# Altium footprint library Connector_PinSocket_2.54mm.PcbLib: 278 footprints (part 2 of 18)
Each footprint in its own frame and in the unit in brackets; x right, y up, seen from the top. Pads: shape width x height; smd on the part's side, far side on the other; paste and mask are expansions set on the pad; w line width, h text height; cw(c..) or ccw(c..) is an arc to the next point about the centre after c.
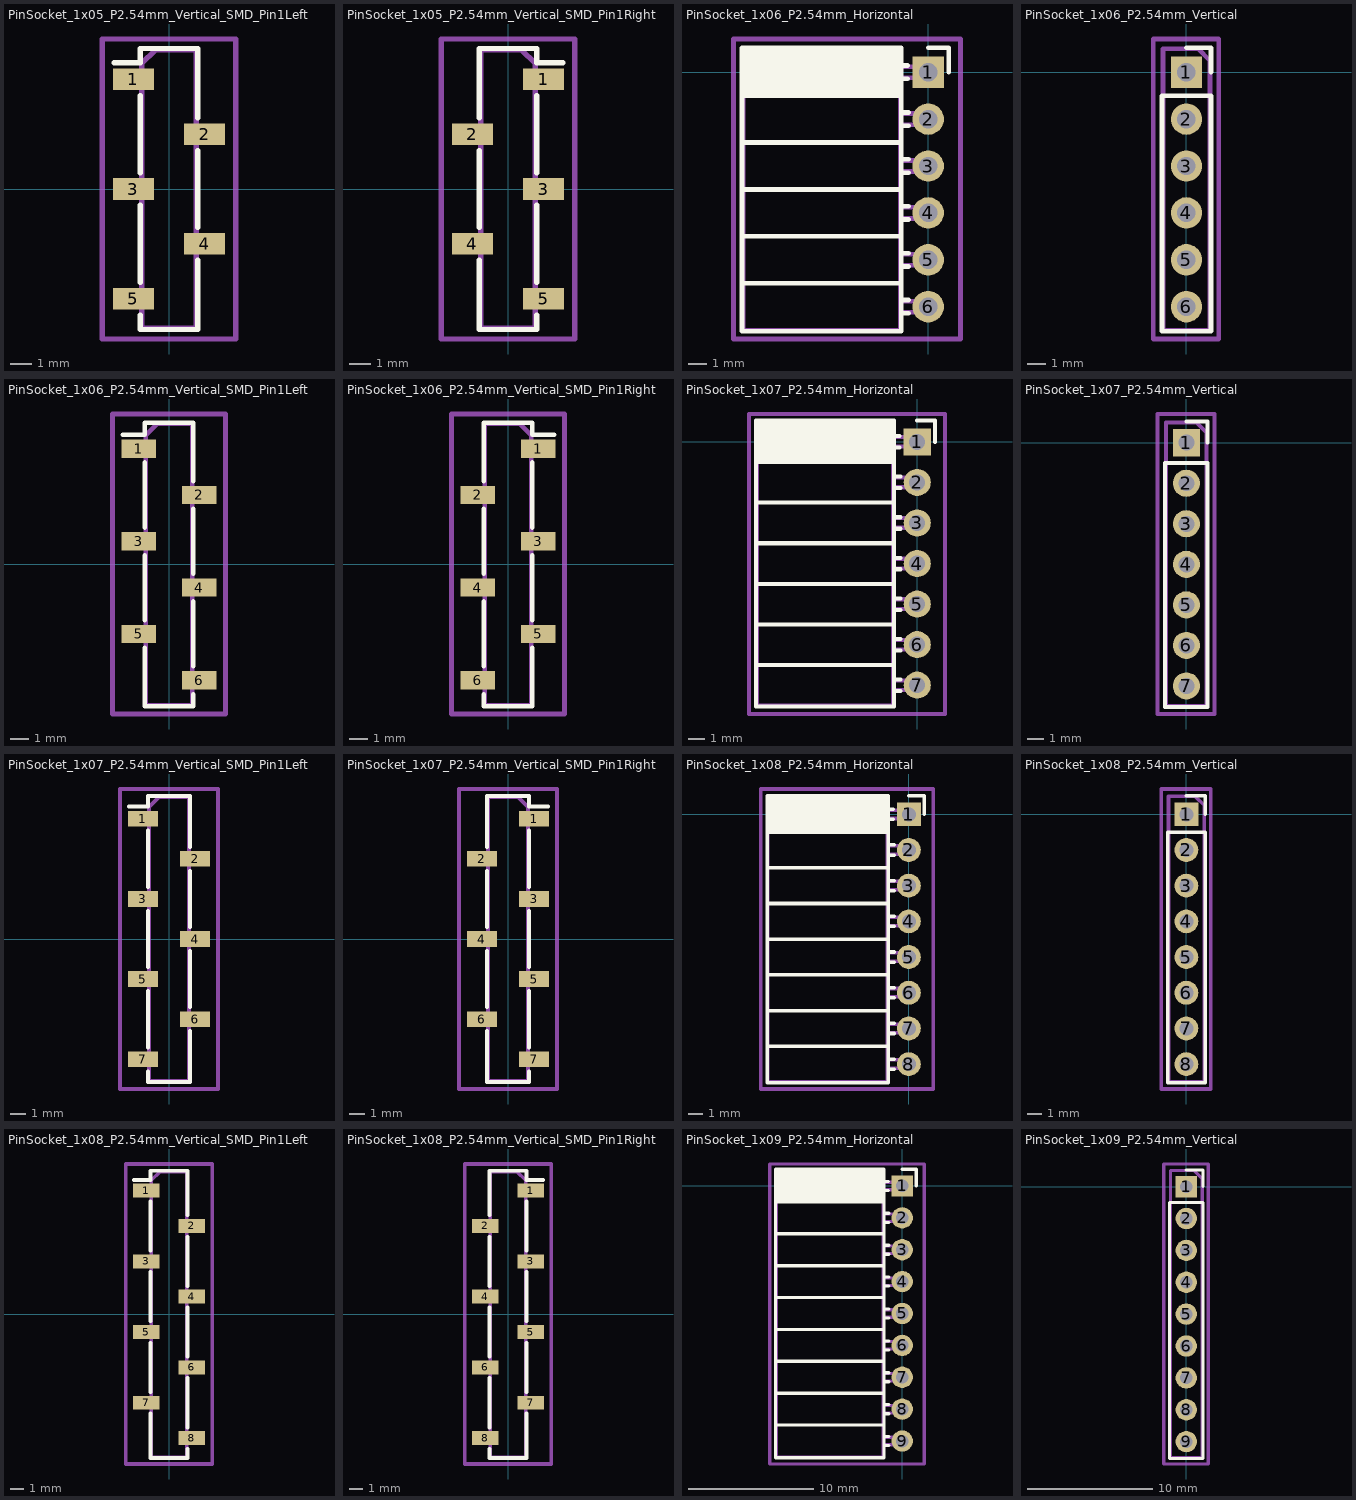
[diagram p1: the footprints below, top view; thin cyan lines are the x and y axes]

## PinSocket_1x05_P2.54mm_Vertical_SMD_Pin1Left [mm]
pads (5):
  rect 1.9x1 smd: 1(-1.65,5.08) 2(1.65,2.54) 3(-1.65,0) 4(1.65,-2.54) 5(-1.65,-5.08)
F.SilkS:
  lines w0.254: -2.54,5.84 -1.33,5.84 -1.33,6.51 1.33,6.51 1.33,3.3 ; -1.33,-5.84 -1.33,-6.51 1.33,-6.51 1.33,-3.3 ; -1.33,-4.32 -1.33,-0.76 ; -1.33,0.76 -1.33,4.32 ; 1.33,-1.78 1.33,1.78
Top Assembly:
  lines w0.254: -1.27,-5.38 -2.27,-5.38 -2.27,-4.78 -1.27,-4.78 ; -1.27,-0.3 -2.27,-0.3 -2.27,0.3 -1.27,0.3 ; -1.27,4.78 -2.27,4.78 -2.27,5.38 -1.27,5.38 ; 1.27,-2.84 2.27,-2.84 2.27,-2.24 1.27,-2.24 ; 1.27,2.24 2.27,2.24 2.27,2.84 1.27,2.84 ; -1.27,-6.45 1.27,-6.45 1.27,6.45 -0.635,6.45 -1.27,5.815 -1.27,-6.45
  text "'.Designator'" at 0.84,-4.047 h1
Top Courtyard:
  lines w0.254: -3.1,-6.95 3.1,-6.95 3.1,6.95 -3.1,6.95 -3.1,-6.95
Top Designator:
  text ".Designator" at -7.618,-0.508 h1.52

## PinSocket_1x05_P2.54mm_Vertical_SMD_Pin1Right [mm]
pads (5):
  rect 1.9x1 smd: 1(1.65,5.08) 2(-1.65,2.54) 3(1.65,0) 4(-1.65,-2.54) 5(1.65,-5.08)
F.SilkS:
  lines w0.254: -1.33,-3.3 -1.33,-6.51 1.33,-6.51 1.33,-5.84 ; -1.33,-1.78 -1.33,1.78 ; -1.33,3.3 -1.33,6.51 1.33,6.51 1.33,5.84 2.54,5.84 ; 1.33,-4.32 1.33,-0.76 ; 1.33,0.76 1.33,4.32
Top Assembly:
  lines w0.254: -1.27,-2.84 -2.27,-2.84 -2.27,-2.24 -1.27,-2.24 ; -1.27,2.24 -2.27,2.24 -2.27,2.84 -1.27,2.84 ; 1.27,-5.38 2.27,-5.38 2.27,-4.78 1.27,-4.78 ; 1.27,-0.3 2.27,-0.3 2.27,0.3 1.27,0.3 ; 1.27,4.78 2.27,4.78 2.27,5.38 1.27,5.38 ; -1.27,-6.45 1.27,-6.45 1.27,5.815 0.635,6.45 -1.27,6.45 -1.27,-6.45
  text "'.Designator'" at 0.84,-4.047 h1
Top Courtyard:
  lines w0.254: -3.1,-6.95 3.1,-6.95 3.1,6.95 -3.1,6.95 -3.1,-6.95
Top Designator:
  text ".Designator" at -7.618,-0.508 h1.52

## PinSocket_1x06_P2.54mm_Horizontal [mm]
pads (6):
  rect 1.7x1.7 hole 1: 1(0,0)
  round 1.7 hole 1: 2(0,-2.54) 3(0,-5.08) 4(0,-7.62) 5(0,-10.16) 6(0,-12.7)
F.SilkS:
  lines w0.254: -10.09,-11.43 -1.46,-11.43 ; -10.09,-8.89 -1.46,-8.89 ; -10.09,-6.35 -1.46,-6.35 ; -10.09,-3.81 -1.46,-3.81 ; -10.09,-1.27 -1.46,-1.27 ; -10.09,-1.152 -1.46,-1.152 ; -10.09,-1.034 -1.46,-1.034 ; -10.09,-0.916 -1.46,-0.916 ; -10.09,-0.798 -1.46,-0.798 ; -10.09,-0.68 -1.46,-0.68 ; -10.09,-0.561 -1.46,-0.561 ; -10.09,-0.443 -1.46,-0.443 ; -10.09,-0.325 -1.46,-0.325 ; -10.09,-0.207 -1.46,-0.207 ; -10.09,-0.089 -1.46,-0.089 ; -10.09,0.029 -1.46,0.029 ; -10.09,0.147 -1.46,0.147 ; -10.09,0.265 -1.46,0.265 ; -10.09,0.383 -1.46,0.383 ; -10.09,0.501 -1.46,0.501 ; -10.09,0.62 -1.46,0.62 ; -10.09,0.738 -1.46,0.738 ; -10.09,0.856 -1.46,0.856 ; -10.09,0.974 -1.46,0.974 ; -10.09,1.092 -1.46,1.092 ; -10.09,1.21 -1.46,1.21 ; -1.46,-13.06 -1.05,-13.06 ; -1.46,-12.34 -1.05,-12.34 ; -1.46,-10.52 -1.05,-10.52 ; -1.46,-9.8 -1.05,-9.8 ; -1.46,-7.98 -1.05,-7.98 ; -1.46,-7.26 -1.05,-7.26 ; -1.46,-5.44 -1.05,-5.44 ; -1.46,-4.72 -1.05,-4.72 ; -1.46,-2.9 -1.05,-2.9 ; -1.46,-2.18 -1.05,-2.18 ; -1.46,-0.36 -1.11,-0.36 ; -1.46,0.36 -1.11,0.36 ; 0,1.33 1.11,1.33 1.11,0 ; -10.09,-14.03 -1.46,-14.03 -1.46,1.33 -10.09,1.33 -10.09,-14.03
Top Assembly:
  lines w0.254: -1.52,-13 0,-13 0,-12.4 -1.52,-12.4 ; -1.52,-10.46 0,-10.46 0,-9.86 -1.52,-9.86 ; -1.52,-7.92 0,-7.92 0,-7.32 -1.52,-7.32 ; -1.52,-5.38 0,-5.38 0,-4.78 -1.52,-4.78 ; -1.52,-2.84 0,-2.84 0,-2.24 -1.52,-2.24 ; -1.52,-0.3 0,-0.3 0,0.3 -1.52,0.3 ; -1.52,0.3 -1.52,-13.97 -10.03,-13.97 -10.03,1.27 -2.49,1.27 -1.52,0.3
  text "'.Designator'" at -4.935,-10.397 h1
Top Courtyard:
  lines w0.254: -10.55,-14.45 1.75,-14.45 1.75,1.8 -10.55,1.8 -10.55,-14.45
Top Designator:
  text ".Designator" at -12.018,-6.833 h1.52

## PinSocket_1x06_P2.54mm_Vertical [mm]
pads (6):
  rect 1.7x1.7 hole 1: 1(0,0)
  round 1.7 hole 1: 2(0,-2.54) 3(0,-5.08) 4(0,-7.62) 5(0,-10.16) 6(0,-12.7)
F.SilkS:
  lines w0.254: 0,1.33 1.33,1.33 1.33,0 ; -1.33,-14.03 1.33,-14.03 1.33,-1.27 -1.33,-1.27 -1.33,-14.03
Top Assembly:
  lines w0.254: -1.27,-13.97 1.27,-13.97 1.27,0.635 0.635,1.27 -1.27,1.27 -1.27,-13.97
  text "'.Designator'" at 0.84,-10.397 h1
Top Courtyard:
  lines w0.254: -1.8,-14.45 1.75,-14.45 1.75,1.8 -1.8,1.8 -1.8,-14.45
Top Designator:
  text ".Designator" at -7.643,-6.833 h1.52

## PinSocket_1x06_P2.54mm_Vertical_SMD_Pin1Left [mm]
pads (6):
  rect 1.9x1 smd: 1(-1.65,6.35) 2(1.65,3.81) 3(-1.65,1.27) 4(1.65,-1.27) 5(-1.65,-3.81) 6(1.65,-6.35)
F.SilkS:
  lines w0.254: -2.54,7.11 -1.33,7.11 -1.33,7.78 1.33,7.78 1.33,4.57 ; -1.33,-4.57 -1.33,-7.78 1.33,-7.78 1.33,-7.11 ; -1.33,-3.05 -1.33,0.51 ; -1.33,2.03 -1.33,5.59 ; 1.33,-5.59 1.33,-2.03 ; 1.33,-0.51 1.33,3.05
Top Assembly:
  lines w0.254: -1.27,-4.11 -2.27,-4.11 -2.27,-3.51 -1.27,-3.51 ; -1.27,0.97 -2.27,0.97 -2.27,1.57 -1.27,1.57 ; -1.27,6.05 -2.27,6.05 -2.27,6.65 -1.27,6.65 ; 1.27,-6.65 2.27,-6.65 2.27,-6.05 1.27,-6.05 ; 1.27,-1.57 2.27,-1.57 2.27,-0.97 1.27,-0.97 ; 1.27,3.51 2.27,3.51 2.27,4.11 1.27,4.11 ; -1.27,-7.72 1.27,-7.72 1.27,7.72 -0.635,7.72 -1.27,7.085 -1.27,-7.72
  text "'.Designator'" at 0.84,-4.047 h1
Top Courtyard:
  lines w0.254: -3.1,-8.2 3.1,-8.2 3.1,8.25 -3.1,8.25 -3.1,-8.2
Top Designator:
  text ".Designator" at -7.618,-0.483 h1.52

## PinSocket_1x06_P2.54mm_Vertical_SMD_Pin1Right [mm]
pads (6):
  rect 1.9x1 smd: 1(1.65,6.35) 2(-1.65,3.81) 3(1.65,1.27) 4(-1.65,-1.27) 5(1.65,-3.81) 6(-1.65,-6.35)
F.SilkS:
  lines w0.254: -1.33,-7.11 -1.33,-7.78 1.33,-7.78 1.33,-4.57 ; -1.33,-5.59 -1.33,-2.03 ; -1.33,-0.51 -1.33,3.05 ; -1.33,4.57 -1.33,7.78 1.33,7.78 1.33,7.11 2.54,7.11 ; 1.33,-3.05 1.33,0.51 ; 1.33,2.03 1.33,5.59
Top Assembly:
  lines w0.254: -1.27,-6.65 -2.27,-6.65 -2.27,-6.05 -1.27,-6.05 ; -1.27,-1.57 -2.27,-1.57 -2.27,-0.97 -1.27,-0.97 ; -1.27,3.51 -2.27,3.51 -2.27,4.11 -1.27,4.11 ; 1.27,-4.11 2.27,-4.11 2.27,-3.51 1.27,-3.51 ; 1.27,0.97 2.27,0.97 2.27,1.57 1.27,1.57 ; 1.27,6.05 2.27,6.05 2.27,6.65 1.27,6.65 ; -1.27,-7.72 1.27,-7.72 1.27,7.085 0.635,7.72 -1.27,7.72 -1.27,-7.72
  text "'.Designator'" at 0.84,-4.047 h1
Top Courtyard:
  lines w0.254: -3.1,-8.2 3.1,-8.2 3.1,8.25 -3.1,8.25 -3.1,-8.2
Top Designator:
  text ".Designator" at -7.618,-0.483 h1.52

## PinSocket_1x07_P2.54mm_Horizontal [mm]
pads (7):
  rect 1.7x1.7 hole 1: 1(0,0)
  round 1.7 hole 1: 2(0,-2.54) 3(0,-5.08) 4(0,-7.62) 5(0,-10.16) 6(0,-12.7) 7(0,-15.24)
F.SilkS:
  lines w0.254: -10.09,-13.97 -1.46,-13.97 ; -10.09,-11.43 -1.46,-11.43 ; -10.09,-8.89 -1.46,-8.89 ; -10.09,-6.35 -1.46,-6.35 ; -10.09,-3.81 -1.46,-3.81 ; -10.09,-1.27 -1.46,-1.27 ; -10.09,-1.152 -1.46,-1.152 ; -10.09,-1.034 -1.46,-1.034 ; -10.09,-0.916 -1.46,-0.916 ; -10.09,-0.798 -1.46,-0.798 ; -10.09,-0.68 -1.46,-0.68 ; -10.09,-0.561 -1.46,-0.561 ; -10.09,-0.443 -1.46,-0.443 ; -10.09,-0.325 -1.46,-0.325 ; -10.09,-0.207 -1.46,-0.207 ; -10.09,-0.089 -1.46,-0.089 ; -10.09,0.029 -1.46,0.029 ; -10.09,0.147 -1.46,0.147 ; -10.09,0.265 -1.46,0.265 ; -10.09,0.383 -1.46,0.383 ; -10.09,0.501 -1.46,0.501 ; -10.09,0.62 -1.46,0.62 ; -10.09,0.738 -1.46,0.738 ; -10.09,0.856 -1.46,0.856 ; -10.09,0.974 -1.46,0.974 ; -10.09,1.092 -1.46,1.092 ; -10.09,1.21 -1.46,1.21 ; -1.46,-15.6 -1.05,-15.6 ; -1.46,-14.88 -1.05,-14.88 ; -1.46,-13.06 -1.05,-13.06 ; -1.46,-12.34 -1.05,-12.34 ; -1.46,-10.52 -1.05,-10.52 ; -1.46,-9.8 -1.05,-9.8 ; -1.46,-7.98 -1.05,-7.98 ; -1.46,-7.26 -1.05,-7.26 ; -1.46,-5.44 -1.05,-5.44 ; -1.46,-4.72 -1.05,-4.72 ; -1.46,-2.9 -1.05,-2.9 ; -1.46,-2.18 -1.05,-2.18 ; -1.46,-0.36 -1.11,-0.36 ; -1.46,0.36 -1.11,0.36 ; 0,1.33 1.11,1.33 1.11,0 ; -10.09,-16.57 -1.46,-16.57 -1.46,1.33 -10.09,1.33 -10.09,-16.57
Top Assembly:
  lines w0.254: -1.52,-15.54 0,-15.54 0,-14.94 -1.52,-14.94 ; -1.52,-13 0,-13 0,-12.4 -1.52,-12.4 ; -1.52,-10.46 0,-10.46 0,-9.86 -1.52,-9.86 ; -1.52,-7.92 0,-7.92 0,-7.32 -1.52,-7.32 ; -1.52,-5.38 0,-5.38 0,-4.78 -1.52,-4.78 ; -1.52,-2.84 0,-2.84 0,-2.24 -1.52,-2.24 ; -1.52,-0.3 0,-0.3 0,0.3 -1.52,0.3 ; -1.52,0.3 -1.52,-16.51 -10.03,-16.51 -10.03,1.27 -2.49,1.27 -1.52,0.3
  text "'.Designator'" at -4.935,-11.667 h1
Top Courtyard:
  lines w0.254: -10.55,-17.05 1.75,-17.05 1.75,1.75 -10.55,1.75 -10.55,-17.05
Top Designator:
  text ".Designator" at -12.018,-8.158 h1.52

## PinSocket_1x07_P2.54mm_Vertical [mm]
pads (7):
  rect 1.7x1.7 hole 1: 1(0,0)
  round 1.7 hole 1: 2(0,-2.54) 3(0,-5.08) 4(0,-7.62) 5(0,-10.16) 6(0,-12.7) 7(0,-15.24)
F.SilkS:
  lines w0.254: 0,1.33 1.33,1.33 1.33,0 ; -1.33,-16.57 1.33,-16.57 1.33,-1.27 -1.33,-1.27 -1.33,-16.57
Top Assembly:
  lines w0.254: -1.27,-16.51 1.27,-16.51 1.27,0.635 0.635,1.27 -1.27,1.27 -1.27,-16.51
  text "'.Designator'" at 0.84,-11.667 h1
Top Courtyard:
  lines w0.254: -1.8,-17 1.75,-17 1.75,1.8 -1.8,1.8 -1.8,-17
Top Designator:
  text ".Designator" at -7.643,-8.108 h1.52

## PinSocket_1x07_P2.54mm_Vertical_SMD_Pin1Left [mm]
pads (7):
  rect 1.9x1 smd: 1(-1.65,7.62) 2(1.65,5.08) 3(-1.65,2.54) 4(1.65,0) 5(-1.65,-2.54) 6(1.65,-5.08) 7(-1.65,-7.62)
F.SilkS:
  lines w0.254: -2.54,8.38 -1.33,8.38 -1.33,9.05 1.33,9.05 1.33,5.84 ; -1.33,-8.38 -1.33,-9.05 1.33,-9.05 1.33,-5.84 ; -1.33,-6.86 -1.33,-3.3 ; -1.33,-1.78 -1.33,1.78 ; -1.33,3.3 -1.33,6.86 ; 1.33,-4.32 1.33,-0.76 ; 1.33,0.76 1.33,4.32
Top Assembly:
  lines w0.254: -1.27,-7.92 -2.27,-7.92 -2.27,-7.32 -1.27,-7.32 ; -1.27,-2.84 -2.27,-2.84 -2.27,-2.24 -1.27,-2.24 ; -1.27,2.24 -2.27,2.24 -2.27,2.84 -1.27,2.84 ; -1.27,7.32 -2.27,7.32 -2.27,7.92 -1.27,7.92 ; 1.27,-5.38 2.27,-5.38 2.27,-4.78 1.27,-4.78 ; 1.27,-0.3 2.27,-0.3 2.27,0.3 1.27,0.3 ; 1.27,4.78 2.27,4.78 2.27,5.38 1.27,5.38 ; -1.27,-8.99 1.27,-8.99 1.27,8.99 -0.635,8.99 -1.27,8.355 -1.27,-8.99
  text "'.Designator'" at 0.84,-4.047 h1
Top Courtyard:
  lines w0.254: -3.1,-9.5 3.1,-9.5 3.1,9.5 -3.1,9.5 -3.1,-9.5
Top Designator:
  text ".Designator" at -7.618,-0.508 h1.52

## PinSocket_1x07_P2.54mm_Vertical_SMD_Pin1Right [mm]
pads (7):
  rect 1.9x1 smd: 1(1.65,7.62) 2(-1.65,5.08) 3(1.65,2.54) 4(-1.65,0) 5(1.65,-2.54) 6(-1.65,-5.08) 7(1.65,-7.62)
F.SilkS:
  lines w0.254: -1.33,-5.84 -1.33,-9.05 1.33,-9.05 1.33,-8.38 ; -1.33,-4.32 -1.33,-0.76 ; -1.33,0.76 -1.33,4.32 ; -1.33,5.84 -1.33,9.05 1.33,9.05 1.33,8.38 2.54,8.38 ; 1.33,-6.86 1.33,-3.3 ; 1.33,-1.78 1.33,1.78 ; 1.33,3.3 1.33,6.86
Top Assembly:
  lines w0.254: -1.27,-5.38 -2.27,-5.38 -2.27,-4.78 -1.27,-4.78 ; -1.27,-0.3 -2.27,-0.3 -2.27,0.3 -1.27,0.3 ; -1.27,4.78 -2.27,4.78 -2.27,5.38 -1.27,5.38 ; 1.27,-7.92 2.27,-7.92 2.27,-7.32 1.27,-7.32 ; 1.27,-2.84 2.27,-2.84 2.27,-2.24 1.27,-2.24 ; 1.27,2.24 2.27,2.24 2.27,2.84 1.27,2.84 ; 1.27,7.32 2.27,7.32 2.27,7.92 1.27,7.92 ; -1.27,-8.99 1.27,-8.99 1.27,8.355 0.635,8.99 -1.27,8.99 -1.27,-8.99
  text "'.Designator'" at 0.84,-4.047 h1
Top Courtyard:
  lines w0.254: -3.1,-9.5 3.1,-9.5 3.1,9.5 -3.1,9.5 -3.1,-9.5
Top Designator:
  text ".Designator" at -7.618,-0.508 h1.52

## PinSocket_1x08_P2.54mm_Horizontal [mm]
pads (8):
  rect 1.7x1.7 hole 1: 1(0,0)
  round 1.7 hole 1: 2(0,-2.54) 3(0,-5.08) 4(0,-7.62) 5(0,-10.16) 6(0,-12.7) 7(0,-15.24) 8(0,-17.78)
F.SilkS:
  lines w0.254: -10.09,-16.51 -1.46,-16.51 ; -10.09,-13.97 -1.46,-13.97 ; -10.09,-11.43 -1.46,-11.43 ; -10.09,-8.89 -1.46,-8.89 ; -10.09,-6.35 -1.46,-6.35 ; -10.09,-3.81 -1.46,-3.81 ; -10.09,-1.27 -1.46,-1.27 ; -10.09,-1.152 -1.46,-1.152 ; -10.09,-1.034 -1.46,-1.034 ; -10.09,-0.916 -1.46,-0.916 ; -10.09,-0.798 -1.46,-0.798 ; -10.09,-0.68 -1.46,-0.68 ; -10.09,-0.561 -1.46,-0.561 ; -10.09,-0.443 -1.46,-0.443 ; -10.09,-0.325 -1.46,-0.325 ; -10.09,-0.207 -1.46,-0.207 ; -10.09,-0.089 -1.46,-0.089 ; -10.09,0.029 -1.46,0.029 ; -10.09,0.147 -1.46,0.147 ; -10.09,0.265 -1.46,0.265 ; -10.09,0.383 -1.46,0.383 ; -10.09,0.501 -1.46,0.501 ; -10.09,0.62 -1.46,0.62 ; -10.09,0.738 -1.46,0.738 ; -10.09,0.856 -1.46,0.856 ; -10.09,0.974 -1.46,0.974 ; -10.09,1.092 -1.46,1.092 ; -10.09,1.21 -1.46,1.21 ; -1.46,-18.14 -1.05,-18.14 ; -1.46,-17.42 -1.05,-17.42 ; -1.46,-15.6 -1.05,-15.6 ; -1.46,-14.88 -1.05,-14.88 ; -1.46,-13.06 -1.05,-13.06 ; -1.46,-12.34 -1.05,-12.34 ; -1.46,-10.52 -1.05,-10.52 ; -1.46,-9.8 -1.05,-9.8 ; -1.46,-7.98 -1.05,-7.98 ; -1.46,-7.26 -1.05,-7.26 ; -1.46,-5.44 -1.05,-5.44 ; -1.46,-4.72 -1.05,-4.72 ; -1.46,-2.9 -1.05,-2.9 ; -1.46,-2.18 -1.05,-2.18 ; -1.46,-0.36 -1.11,-0.36 ; -1.46,0.36 -1.11,0.36 ; 0,1.33 1.11,1.33 1.11,0 ; -10.09,-19.11 -1.46,-19.11 -1.46,1.33 -10.09,1.33 -10.09,-19.11
Top Assembly:
  lines w0.254: -1.52,-18.08 0,-18.08 0,-17.48 -1.52,-17.48 ; -1.52,-15.54 0,-15.54 0,-14.94 -1.52,-14.94 ; -1.52,-13 0,-13 0,-12.4 -1.52,-12.4 ; -1.52,-10.46 0,-10.46 0,-9.86 -1.52,-9.86 ; -1.52,-7.92 0,-7.92 0,-7.32 -1.52,-7.32 ; -1.52,-5.38 0,-5.38 0,-4.78 -1.52,-4.78 ; -1.52,-2.84 0,-2.84 0,-2.24 -1.52,-2.24 ; -1.52,-0.3 0,-0.3 0,0.3 -1.52,0.3 ; -1.52,0.3 -1.52,-19.05 -10.03,-19.05 -10.03,1.27 -2.49,1.27 -1.52,0.3
  text "'.Designator'" at -4.935,-12.937 h1
Top Courtyard:
  lines w0.254: -10.55,-19.55 1.75,-19.55 1.75,1.8 -10.55,1.8 -10.55,-19.55
Top Designator:
  text ".Designator" at -12.018,-9.383 h1.52

## PinSocket_1x08_P2.54mm_Vertical [mm]
pads (8):
  rect 1.7x1.7 hole 1: 1(0,0)
  round 1.7 hole 1: 2(0,-2.54) 3(0,-5.08) 4(0,-7.62) 5(0,-10.16) 6(0,-12.7) 7(0,-15.24) 8(0,-17.78)
F.SilkS:
  lines w0.254: 0,1.33 1.33,1.33 1.33,0 ; -1.33,-19.11 1.33,-19.11 1.33,-1.27 -1.33,-1.27 -1.33,-19.11
Top Assembly:
  lines w0.254: -1.27,-19.05 1.27,-19.05 1.27,0.635 0.635,1.27 -1.27,1.27 -1.27,-19.05
  text "'.Designator'" at 0.84,-12.937 h1
Top Courtyard:
  lines w0.254: -1.8,-19.55 1.75,-19.55 1.75,1.8 -1.8,1.8 -1.8,-19.55
Top Designator:
  text ".Designator" at -7.643,-9.383 h1.52

## PinSocket_1x08_P2.54mm_Vertical_SMD_Pin1Left [mm]
pads (8):
  rect 1.9x1 smd: 1(-1.65,8.89) 2(1.65,6.35) 3(-1.65,3.81) 4(1.65,1.27) 5(-1.65,-1.27) 6(1.65,-3.81) 7(-1.65,-6.35) 8(1.65,-8.89)
F.SilkS:
  lines w0.254: -2.54,9.65 -1.33,9.65 -1.33,10.32 1.33,10.32 1.33,7.11 ; -1.33,-7.11 -1.33,-10.32 1.33,-10.32 1.33,-9.65 ; -1.33,-5.59 -1.33,-2.03 ; -1.33,-0.51 -1.33,3.05 ; -1.33,4.57 -1.33,8.13 ; 1.33,-8.13 1.33,-4.57 ; 1.33,-3.05 1.33,0.51 ; 1.33,2.03 1.33,5.59
Top Assembly:
  lines w0.254: -1.27,-6.65 -2.27,-6.65 -2.27,-6.05 -1.27,-6.05 ; -1.27,-1.57 -2.27,-1.57 -2.27,-0.97 -1.27,-0.97 ; -1.27,3.51 -2.27,3.51 -2.27,4.11 -1.27,4.11 ; -1.27,8.59 -2.27,8.59 -2.27,9.19 -1.27,9.19 ; 1.27,-9.19 2.27,-9.19 2.27,-8.59 1.27,-8.59 ; 1.27,-4.11 2.27,-4.11 2.27,-3.51 1.27,-3.51 ; 1.27,0.97 2.27,0.97 2.27,1.57 1.27,1.57 ; 1.27,6.05 2.27,6.05 2.27,6.65 1.27,6.65 ; -1.27,-10.26 1.27,-10.26 1.27,10.26 -0.635,10.26 -1.27,9.625 -1.27,-10.26
  text "'.Designator'" at 0.84,-4.047 h1
Top Courtyard:
  lines w0.254: -3.1,-10.75 3.1,-10.75 3.1,10.8 -3.1,10.8 -3.1,-10.75
Top Designator:
  text ".Designator" at -7.618,-0.483 h1.52

## PinSocket_1x08_P2.54mm_Vertical_SMD_Pin1Right [mm]
pads (8):
  rect 1.9x1 smd: 1(1.65,8.89) 2(-1.65,6.35) 3(1.65,3.81) 4(-1.65,1.27) 5(1.65,-1.27) 6(-1.65,-3.81) 7(1.65,-6.35) 8(-1.65,-8.89)
F.SilkS:
  lines w0.254: -1.33,-9.65 -1.33,-10.32 1.33,-10.32 1.33,-7.11 ; -1.33,-8.13 -1.33,-4.57 ; -1.33,-3.05 -1.33,0.51 ; -1.33,2.03 -1.33,5.59 ; -1.33,7.11 -1.33,10.32 1.33,10.32 1.33,9.65 2.54,9.65 ; 1.33,-5.59 1.33,-2.03 ; 1.33,-0.51 1.33,3.05 ; 1.33,4.57 1.33,8.13
Top Assembly:
  lines w0.254: -1.27,-9.19 -2.27,-9.19 -2.27,-8.59 -1.27,-8.59 ; -1.27,-4.11 -2.27,-4.11 -2.27,-3.51 -1.27,-3.51 ; -1.27,0.97 -2.27,0.97 -2.27,1.57 -1.27,1.57 ; -1.27,6.05 -2.27,6.05 -2.27,6.65 -1.27,6.65 ; 1.27,-6.65 2.27,-6.65 2.27,-6.05 1.27,-6.05 ; 1.27,-1.57 2.27,-1.57 2.27,-0.97 1.27,-0.97 ; 1.27,3.51 2.27,3.51 2.27,4.11 1.27,4.11 ; 1.27,8.59 2.27,8.59 2.27,9.19 1.27,9.19 ; -1.27,-10.26 1.27,-10.26 1.27,9.625 0.635,10.26 -1.27,10.26 -1.27,-10.26
  text "'.Designator'" at 0.84,-4.047 h1
Top Courtyard:
  lines w0.254: -3.1,-10.75 3.1,-10.75 3.1,10.8 -3.1,10.8 -3.1,-10.75
Top Designator:
  text ".Designator" at -7.618,-0.483 h1.52

## PinSocket_1x09_P2.54mm_Horizontal [mm]
pads (9):
  rect 1.7x1.7 hole 1: 1(0,0)
  round 1.7 hole 1: 2(0,-2.54) 3(0,-5.08) 4(0,-7.62) 5(0,-10.16) 6(0,-12.7) 7(0,-15.24) 8(0,-17.78) 9(0,-20.32)
F.SilkS:
  lines w0.254: -10.09,-19.05 -1.46,-19.05 ; -10.09,-16.51 -1.46,-16.51 ; -10.09,-13.97 -1.46,-13.97 ; -10.09,-11.43 -1.46,-11.43 ; -10.09,-8.89 -1.46,-8.89 ; -10.09,-6.35 -1.46,-6.35 ; -10.09,-3.81 -1.46,-3.81 ; -10.09,-1.27 -1.46,-1.27 ; -10.09,-1.152 -1.46,-1.152 ; -10.09,-1.034 -1.46,-1.034 ; -10.09,-0.916 -1.46,-0.916 ; -10.09,-0.798 -1.46,-0.798 ; -10.09,-0.68 -1.46,-0.68 ; -10.09,-0.561 -1.46,-0.561 ; -10.09,-0.443 -1.46,-0.443 ; -10.09,-0.325 -1.46,-0.325 ; -10.09,-0.207 -1.46,-0.207 ; -10.09,-0.089 -1.46,-0.089 ; -10.09,0.029 -1.46,0.029 ; -10.09,0.147 -1.46,0.147 ; -10.09,0.265 -1.46,0.265 ; -10.09,0.383 -1.46,0.383 ; -10.09,0.501 -1.46,0.501 ; -10.09,0.62 -1.46,0.62 ; -10.09,0.738 -1.46,0.738 ; -10.09,0.856 -1.46,0.856 ; -10.09,0.974 -1.46,0.974 ; -10.09,1.092 -1.46,1.092 ; -10.09,1.21 -1.46,1.21 ; -1.46,-20.68 -1.05,-20.68 ; -1.46,-19.96 -1.05,-19.96 ; -1.46,-18.14 -1.05,-18.14 ; -1.46,-17.42 -1.05,-17.42 ; -1.46,-15.6 -1.05,-15.6 ; -1.46,-14.88 -1.05,-14.88 ; -1.46,-13.06 -1.05,-13.06 ; -1.46,-12.34 -1.05,-12.34 ; -1.46,-10.52 -1.05,-10.52 ; -1.46,-9.8 -1.05,-9.8 ; -1.46,-7.98 -1.05,-7.98 ; -1.46,-7.26 -1.05,-7.26 ; -1.46,-5.44 -1.05,-5.44 ; -1.46,-4.72 -1.05,-4.72 ; -1.46,-2.9 -1.05,-2.9 ; -1.46,-2.18 -1.05,-2.18 ; -1.46,-0.36 -1.11,-0.36 ; -1.46,0.36 -1.11,0.36 ; 0,1.33 1.11,1.33 1.11,0 ; -10.09,-21.65 -1.46,-21.65 -1.46,1.33 -10.09,1.33 -10.09,-21.65
Top Assembly:
  lines w0.254: -1.52,-20.62 0,-20.62 0,-20.02 -1.52,-20.02 ; -1.52,-18.08 0,-18.08 0,-17.48 -1.52,-17.48 ; -1.52,-15.54 0,-15.54 0,-14.94 -1.52,-14.94 ; -1.52,-13 0,-13 0,-12.4 -1.52,-12.4 ; -1.52,-10.46 0,-10.46 0,-9.86 -1.52,-9.86 ; -1.52,-7.92 0,-7.92 0,-7.32 -1.52,-7.32 ; -1.52,-5.38 0,-5.38 0,-4.78 -1.52,-4.78 ; -1.52,-2.84 0,-2.84 0,-2.24 -1.52,-2.24 ; -1.52,-0.3 0,-0.3 0,0.3 -1.52,0.3 ; -1.52,0.3 -1.52,-21.59 -10.03,-21.59 -10.03,1.27 -2.49,1.27 -1.52,0.3
  text "'.Designator'" at -4.935,-14.207 h1
Top Courtyard:
  lines w0.254: -10.55,-22.15 1.75,-22.15 1.75,1.75 -10.55,1.75 -10.55,-22.15
Top Designator:
  text ".Designator" at -12.018,-10.708 h1.52

## PinSocket_1x09_P2.54mm_Vertical [mm]
pads (9):
  rect 1.7x1.7 hole 1: 1(0,0)
  round 1.7 hole 1: 2(0,-2.54) 3(0,-5.08) 4(0,-7.62) 5(0,-10.16) 6(0,-12.7) 7(0,-15.24) 8(0,-17.78) 9(0,-20.32)
F.SilkS:
  lines w0.254: 0,1.33 1.33,1.33 1.33,0 ; -1.33,-21.65 1.33,-21.65 1.33,-1.27 -1.33,-1.27 -1.33,-21.65
Top Assembly:
  lines w0.254: -1.27,-21.59 1.27,-21.59 1.27,0.635 0.635,1.27 -1.27,1.27 -1.27,-21.59
  text "'.Designator'" at 0.84,-14.207 h1
Top Courtyard:
  lines w0.254: -1.8,-22.1 1.75,-22.1 1.75,1.8 -1.8,1.8 -1.8,-22.1
Top Designator:
  text ".Designator" at -7.643,-10.658 h1.52